# Altium footprint library 杂项库.PcbLib: 585 footprints (part 36 of 37)
Each footprint in its own frame and in the unit in brackets; x right, y up, seen from the top. Pads: shape width x height; smd on the part's side, far side on the other; paste and mask are expansions set on the pad; w line width, h text height; cw(c..) or ccw(c..) is an arc to the next point about the centre after c.
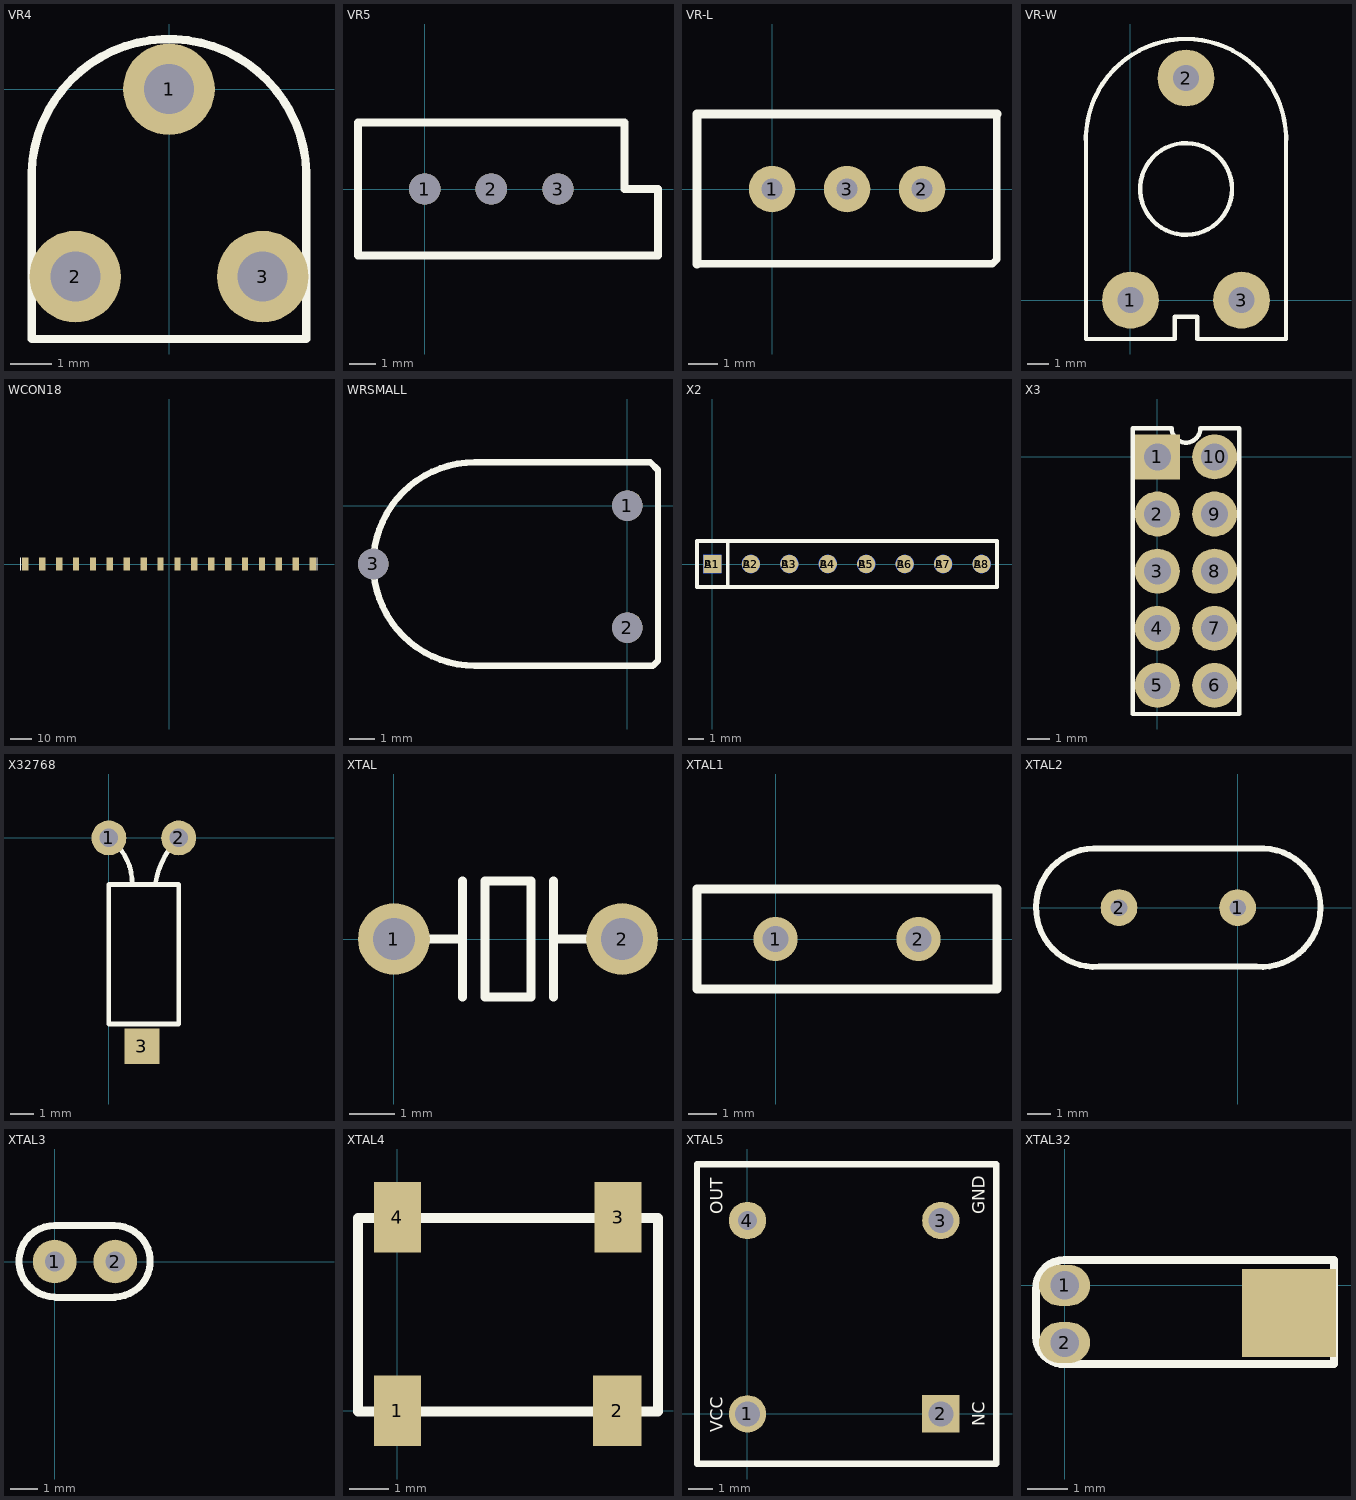
[diagram p35: the footprints below, top view; thin cyan lines are the x and y axes]

## VR4 [mm]
pads (3):
  round 2.2 hole 1.2: 1(0,0) 2(-2.25,-4.5) 3(2.25,-4.5)
Top Overlay:
  lines w0.2: -3.3,-6 3.3,-6 3.3,-2 ccw(c0,-2.095) -3.3,-2 -3.3,-6

## VR5 [mm]
pads (3):
  round 1.2 hole 1.2: 1(0,0) 2(2.54,0) 3(5.08,0)
Top Overlay:
  lines w0.305: -2.54,-2.54 8.89,-2.54 8.89,0 7.62,0 7.62,2.54 -2.54,2.54 -2.54,-2.54

## VR-L [mil]
pads (3):
  round 62 hole 28: 1(0,0) 2(200,0) 3(100,0)
Top Overlay:
  lines w10: -100,-100 293.7,-100 300,-93.7 ; 300,-78.74 300,-93.7 ; 300,100 300,-93.7
  lines w12: -100,-100 -100,100 300,100

## VR-W [mm]
pads (3):
  round 2.6 hole 1.2: 1(0,0) 2(2.54,10.16) 3(5.08,0)
Top Overlay:
  circle w0.2: c2.543,5.085 r2.1
  lines w0.2: -2.032,-1.778 2.032,-1.778 2.032,-0.762 3.048,-0.762 3.048,-1.778 7.112,-1.778 7.112,7.112 ccw(c2.54,7.366) -2.032,7.112 -2.032,-1.778

## WCON18 [mm]
pads (18):
  rect 3x6 smd: 1(-68,0) 2(-60,0) 3(-52,0) 4(-44,0) 5(-36,0) 6(-28,0) 7(-20,0) 8(-12,0) 9(-4,0) 10(4,0) 11(12,0) 12(20,0) 13(28,0) 14(36,0) 15(44,0) 16(52,0) 17(60,0) 18(68,0)
Top Overlay:
  lines w0.254: -70.084,-3.048 -70.084,3.048 ; 70.124,-3.048 70.124,3.048

## WRSMALL [mm]
pads (3):
  round 1.2 hole 1.2: 1(0,0) 2(0,-4.8) 3(-10,-2.3)
Top Overlay:
  lines w0.254: -10,-2.3 cw(c-6,-2.3) -6,1.7 0.9,1.7 1.2,1.4 1.2,-6.1 1,-6.3 -6,-6.3 cw(c-6,-2.3) -10,-2.3

## X2 [mm]
pads (16):
  rect 1.2x1.2 smd: A1(0,0)
  round 1.2 smd: A2(2.54,0) A3(5.08,0) A4(7.62,0) A5(10.16,0) A6(12.7,0) A7(15.24,0) A8(17.78,0)
  rect 1.2x1.2 smd far side: B1(0,0)
  round 1.2 smd far side: B2(2.54,0) B3(5.08,0) B4(7.62,0) B5(10.16,0) B6(12.7,0) B7(15.24,0) B8(17.78,0)
Top Overlay:
  lines w0.254: 1.016,-1.524 1.016,1.524 ; -1.016,-1.524 -1.016,1.524 18.796,1.524 18.796,-1.524 -1.016,-1.524

## X3 [mm]
pads (10):
  rect 2x2 hole 1.2: 1(0,0)
  round 2 hole 1.2: 2(0,-2.54) 3(0,-5.08) 4(0,-7.62) 5(0,-10.16) 6(2.54,-10.16) 7(2.54,-7.62) 8(2.54,-5.08) 9(2.54,-2.54) 10(2.54,0)
Top Overlay:
  lines w0.2: -1.105,-11.43 -1.105,1.27 0.635,1.27 ccw(c1.27,1.27) 1.905,1.27 3.645,1.27 3.645,-11.43 -1.105,-11.43

## X32768 [mm]
pads (3):
  round 1.5 hole 0.8: 1(0,0) 2(3,0)
  rect 1.524x1.524 smd: 3(1.422,-8.966)
Top Overlay:
  lines w0.2: 0,0 cw(c-1.433,-1.967) 1,-2 ; 2,-2 cw(c5.5,-2.5) 3,0 ; 0,-8 0,-2 3,-2 3,-8 0,-8

## XTAL [mil]
pads (2):
  round 62 hole 36: 1(0,0) 2(196.85,0)
Top Overlay:
  lines w7.87: 6.3,0 56.3,0 ; 59.05,-50 59.05,50 ; 137.79,-50 137.79,50 ; 140.55,0 190.55,0 ; 78.74,-50 118.11,-50 118.11,50 78.74,50 78.74,-50

## XTAL1 [mil]
pads (2):
  round 62 hole 36: 1(0,0) 2(200,0)
Top Overlay:
  lines w12: -110,-70 310,-70 310,70 -110,70 -110,-70

## XTAL2 [mil]
pads (2):
  round 62 hole 28: 1(0,0) 2(-200,0)
Top Overlay:
  lines w10: -232.03,99.68 ccw(c-240,0) -233.56,-99.79 -233.45,-99.68 32.02,-99.68 ; 32.03,-99.68 ccw(c40,0) 33.56,99.79 -231.91,99.79 ; -231.91,99.79 -232.03,99.68 -231.91,99.79

## XTAL3 [mil]
pads (2):
  round 62 hole 28: 1(0,0) 2(85.85,0)
Top Overlay:
  lines w10: 84.96,-50.11 ccw(c84.96,0.49) 84.96,51.1 -0.15,51.1 ccw(c-0.15,0.55) -0.15,-50 0.85,-51 85.85,-51

## XTAL4 [mil]
pads (4):
  rect 47.24x70 smd: 1(0,0) 3(220,193) 4(0,193)
  rect 48.42x70 smd: 2(219,0)
Top Overlay:
  lines w10: -39.37,-0.81 259.84,-0.81 259.84,192.1 -39.37,192.1 -39.37,-0.81

## XTAL5 [mil]
pads (4):
  round 60 hole 40: 1(0,0) 3(310,310)
  rect 60x60 hole 40: 2(310.08,0.1)
  round 60 hole 30: 4(0,310)
Top Overlay:
  lines w10: -80.94,-79.9 -80.94,400.1 399.06,400.1 399.06,-79.9 -80.94,-79.9
  text "NC" at 380.08,-19.9 h20
  text "GND" at 380.08,320.1 h20
  text "OUT" at -39.92,320.1 h20
  text "VCC" at -39.92,-29.9 h20

## XTAL32 [mil]
pads (3):
  oval 50x40 hole 28: 1(0,0) 2(0,-56)
  rect 92.13x86 smd: ""(220,-27)
Top Overlay:
  lines w8: -28,-50 ccw(c-0.5,-49.5) 0,-77 264,-77 264,25 0,25 ccw(c0.5,-3.5) -28,-4 -28,-50